# Altium integrated library TI Data Converters Digital to Analog Converter.IntLib: 1533 symbols (part 60 of 99)
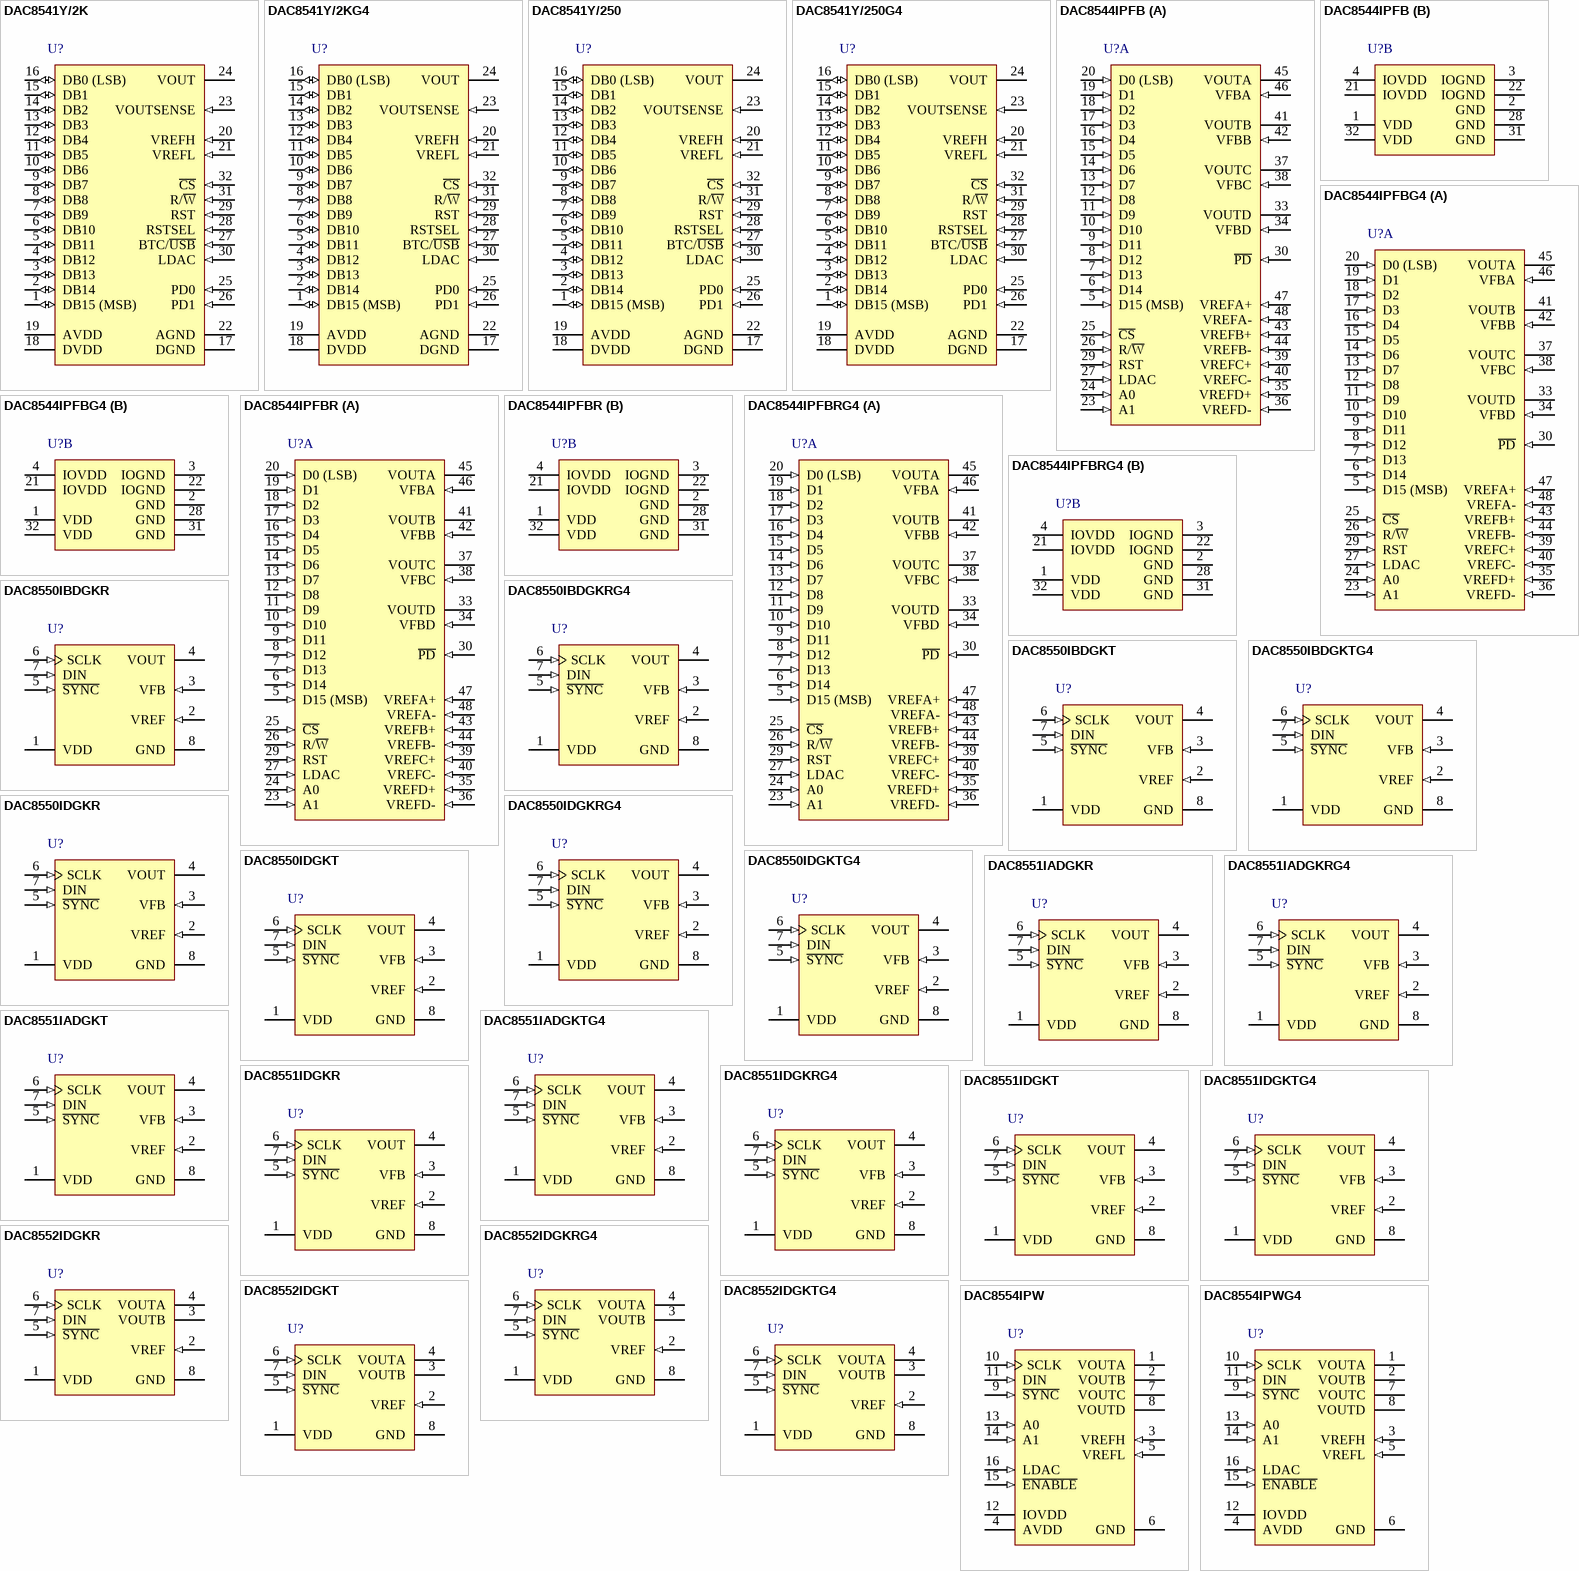
[diagram p132: symbols DAC8541Y/2K to DAC8554IPWG4]

## DAC8551IDGKTG4
designator U?
16-Bit, Ultralow Glitch, Voltage Output, Digital to Analog Converter, -40 to 105 degC, 8-pin SOP (DGK8), Green (RoHS & no Sb/Br); Manufacturer: Texas Instruments; PartNumber: DAC8551IDGKTG4; DAC Channels: 1; INL(Max)(+/-LSB): 8; Interface: Serial SPI; Resolution(Bits): 16; Settling Time(us): 10; SFDR(dB): 87; SNR(dB): 95; SubFamily: Precision DAC (=<10MSPS); DatasheetVersion: SLAS429B; PackageVersion: 4073329/E, 05/2006; PackageReference: DGK8; PackageDescription: 8-Pin Thin Small Outline, Body 3 x 3 mm, Pitch 0.65 mm; Supplier 1: Digi-Key; Supplier Part Number 1: DAC8551IDGKTG4-ND; Supplier 2: Newark; Supplier Part Number 2: 70K1034; Supplier 3: Mouser; Supplier Part Number 3: 595-DAC8551IDGKTG4; DNL(Max)(+/-LSB): 1; Eco-Plan: Green (RoHS & no Sb/Br); Power Consumption(Typ)(mW): 1; Mounting Technology: Surface Mount; Code_JEDEC: MO-187; ComponentLink1Description: Manufacturer URL; ComponentLink1URL: http://www.ti.com/; ComponentLink2Description: Datasheet; ComponentLink2URL: http://www.ti.com/general/docs/lit/getliterature.tsp?genericPartNumber=DAC8551&fileType=pdf; ComponentLink3Description: Package Specification; ComponentLink3URL: http://www.ti.com/litv/pdf/mpds028d
footprint TI-DGK8_N (SOP, 8-Leads, Body 3x3mm, Pitch 0.65mm, IPC Medium Density)
footprint TI-DGK8_L (SOP, 8-Leads, Body 3x3mm, Pitch 0.65mm, IPC High Density)
footprint TI-DGK8_M (SOP, 8-Leads, Body 3x3mm, Pitch 0.65mm, IPC Low Density)
pins: 1 VDD (power) "Power-Supply Input, +2.7V to +5.5V", 2 VREF (in) "Reference Voltage Input", 3 VFB (in) "Feedback connection for the output amplifier", 4 VOUT (hiz) "Analog output voltage from DAC. The output amplifier has rail-to-rail operation.", 5 ~{SYNC} (in) "Level-triggered control input (active LOW). This is the frame synchronization signal for the input data. When S\Y\N\C\ goes LOW, it enables the input shift register and data is transferred in on the falling edges of the (See Datasheet)", 6 SCLK (in) "Serial Clock Input. Data can be transferred at rates up to 30MHz.", 7 DIN (in) "Serial Data Input. Data is clocked into the 24-bit input shift register on the falling edge of the serial clock input.", 8 GND (power) "Ground reference point for all circuitry on the part."

## DAC8552IDGKR
designator U?
16-Bit, Dual-Channel, Ultralow Glitch, Voltage Output, Digital to Analog Converter, -40 to 105 degC, 8-pin SOP (DGK8), Green (RoHS & no Sb/Br); Manufacturer: Texas Instruments; PartNumber: DAC8552IDGKR; DAC Channels: 2; DNL(Max)(+/-LSB): 1; Interface: Serial SPI; Resolution(Bits): 16; Settling Time(us): 10; SFDR(dB): 87; SNR(dB): 95; SubFamily: Precision DAC (=<10MSPS); DatasheetVersion: SLAS430A; PackageVersion: 4073329/E, 05/2006; PackageReference: DGK8; PackageDescription: 8-Pin Thin Small Outline, Body 3 x 3 mm, Pitch 0.65 mm; Supplier 1: Digi-Key; Supplier Part Number 1: DAC8552IDGKR-ND; Supplier 2: Newark; Supplier Part Number 2: 06M7242; Supplier 3: Mouser; Supplier Part Number 3: 595-DAC8552IDGKR; Eco-Plan: Green (RoHS & no Sb/Br); Mounting Technology: Surface Mount; Code_JEDEC: MO-187; ComponentLink1Description: Manufacturer URL; ComponentLink1URL: http://www.ti.com/; ComponentLink2Description: Datasheet; ComponentLink2URL: http://www.ti.com/general/docs/lit/getliterature.tsp?genericPartNumber=DAC8552&fileType=pdf; ComponentLink3Description: Package Specification; ComponentLink3URL: http://www.ti.com/litv/pdf/mpds028d
footprint TI-DGK8_N (SOP, 8-Leads, Body 3x3mm, Pitch 0.65mm, IPC Medium Density)
footprint TI-DGK8_L (SOP, 8-Leads, Body 3x3mm, Pitch 0.65mm, IPC High Density)
footprint TI-DGK8_M (SOP, 8-Leads, Body 3x3mm, Pitch 0.65mm, IPC Low Density)
pins: 1 VDD (power) "Power supply input, +2.7V to +5.5V.", 2 VREF (in) "Reference voltage input.", 3 VOUTB (hiz) "Analog output voltage from DAC B.", 4 VOUTA (hiz) "Analog output voltage from DAC A.", 5 ~{SYNC} (in) "Level triggered S\Y\N\C\ input (active LOW). This is the frame synchronization signal for the input data. When S\Y\N\C\ goes LOW, it enables the input shift register and data is transferred on the falling edge of SCLK. The (See Datasheet)", 6 SCLK (in) "Serial Clock Input. Data can be transferred at rates up to 30 MHz at 5V.", 7 DIN (in) "Serial Data Input. Data is clocked into the 24-bit input shift register on each falling edge of the serial clock input.", 8 GND (power) "Ground reference point for all circuitry on the part."

## DAC8552IDGKRG4
designator U?
16-Bit, Dual-Channel, Ultralow Glitch, Voltage Output, Digital to Analog Converter, -40 to 105 degC, 8-pin SOP (DGK8), Green (RoHS & no Sb/Br); Manufacturer: Texas Instruments; PartNumber: DAC8552IDGKRG4; DAC Channels: 2; DNL(Max)(+/-LSB): 1; Interface: Serial SPI; Resolution(Bits): 16; Settling Time(us): 10; SFDR(dB): 87; SNR(dB): 95; SubFamily: Precision DAC (=<10MSPS); DatasheetVersion: SLAS430A; PackageVersion: 4073329/E, 05/2006; PackageReference: DGK8; PackageDescription: 8-Pin Thin Small Outline, Body 3 x 3 mm, Pitch 0.65 mm; Supplier 1: Digi-Key; Supplier Part Number 1: DAC8552IDGKRG4-ND; Supplier 2: Newark; Supplier Part Number 2: 06M7243; Supplier 3: Mouser; Supplier Part Number 3: 595-DAC8552IDGKRG4; Eco-Plan: Green (RoHS & no Sb/Br); Mounting Technology: Surface Mount; Code_JEDEC: MO-187; ComponentLink1Description: Manufacturer URL; ComponentLink1URL: http://www.ti.com/; ComponentLink2Description: Datasheet; ComponentLink2URL: http://www.ti.com/general/docs/lit/getliterature.tsp?genericPartNumber=DAC8552&fileType=pdf; ComponentLink3Description: Package Specification; ComponentLink3URL: http://www.ti.com/litv/pdf/mpds028d
footprint TI-DGK8_N (SOP, 8-Leads, Body 3x3mm, Pitch 0.65mm, IPC Medium Density)
footprint TI-DGK8_L (SOP, 8-Leads, Body 3x3mm, Pitch 0.65mm, IPC High Density)
footprint TI-DGK8_M (SOP, 8-Leads, Body 3x3mm, Pitch 0.65mm, IPC Low Density)
pins: 1 VDD (power) "Power supply input, +2.7V to +5.5V.", 2 VREF (in) "Reference voltage input.", 3 VOUTB (hiz) "Analog output voltage from DAC B.", 4 VOUTA (hiz) "Analog output voltage from DAC A.", 5 ~{SYNC} (in) "Level triggered S\Y\N\C\ input (active LOW). This is the frame synchronization signal for the input data. When S\Y\N\C\ goes LOW, it enables the input shift register and data is transferred on the falling edge of SCLK. The (See Datasheet)", 6 SCLK (in) "Serial Clock Input. Data can be transferred at rates up to 30 MHz at 5V.", 7 DIN (in) "Serial Data Input. Data is clocked into the 24-bit input shift register on each falling edge of the serial clock input.", 8 GND (power) "Ground reference point for all circuitry on the part."

## DAC8552IDGKT
designator U?
16-Bit, Dual-Channel, Ultralow Glitch, Voltage Output, Digital to Analog Converter, -40 to 105 degC, 8-pin SOP (DGK8), Green (RoHS & no Sb/Br); Manufacturer: Texas Instruments; PartNumber: DAC8552IDGKT; DAC Channels: 2; DNL(Max)(+/-LSB): 1; Interface: Serial SPI; Resolution(Bits): 16; Settling Time(us): 10; SFDR(dB): 87; SNR(dB): 95; SubFamily: Precision DAC (=<10MSPS); DatasheetVersion: SLAS430A; PackageVersion: 4073329/E, 05/2006; PackageReference: DGK8; PackageDescription: 8-Pin Thin Small Outline, Body 3 x 3 mm, Pitch 0.65 mm; Supplier 1: Digi-Key; Supplier Part Number 1: 296-20676-2-ND; Supplier 2: Digi-Key; Supplier Part Number 2: 296-20676-1-ND; Supplier 3: Digi-Key; Supplier Part Number 3: 296-20676-6-ND; Supplier 4: Farnell; Supplier Part Number 4: 1309600; Supplier 5: Newark; Supplier Part Number 5: 06M7244; Supplier 6: Mouser; Supplier Part Number 6: 595-DAC8552IDGKT; Eco-Plan: Green (RoHS & no Sb/Br); Mounting Technology: Surface Mount; Code_JEDEC: MO-187; ComponentLink1Description: Manufacturer URL; ComponentLink1URL: http://www.ti.com/; ComponentLink2Description: Datasheet; ComponentLink2URL: http://www.ti.com/general/docs/lit/getliterature.tsp?genericPartNumber=DAC8552&fileType=pdf; ComponentLink3Description: Package Specification; ComponentLink3URL: http://www.ti.com/litv/pdf/mpds028d
footprint TI-DGK8_N (SOP, 8-Leads, Body 3x3mm, Pitch 0.65mm, IPC Medium Density)
footprint TI-DGK8_L (SOP, 8-Leads, Body 3x3mm, Pitch 0.65mm, IPC High Density)
footprint TI-DGK8_M (SOP, 8-Leads, Body 3x3mm, Pitch 0.65mm, IPC Low Density)
pins: 1 VDD (power) "Power supply input, +2.7V to +5.5V.", 2 VREF (in) "Reference voltage input.", 3 VOUTB (hiz) "Analog output voltage from DAC B.", 4 VOUTA (hiz) "Analog output voltage from DAC A.", 5 ~{SYNC} (in) "Level triggered S\Y\N\C\ input (active LOW). This is the frame synchronization signal for the input data. When S\Y\N\C\ goes LOW, it enables the input shift register and data is transferred on the falling edge of SCLK. The (See Datasheet)", 6 SCLK (in) "Serial Clock Input. Data can be transferred at rates up to 30 MHz at 5V.", 7 DIN (in) "Serial Data Input. Data is clocked into the 24-bit input shift register on each falling edge of the serial clock input.", 8 GND (power) "Ground reference point for all circuitry on the part."

## DAC8552IDGKTG4
designator U?
16-Bit, Dual-Channel, Ultralow Glitch, Voltage Output, Digital to Analog Converter, -40 to 105 degC, 8-pin SOP (DGK8), Green (RoHS & no Sb/Br); Manufacturer: Texas Instruments; PartNumber: DAC8552IDGKTG4; DAC Channels: 2; DNL(Max)(+/-LSB): 1; Interface: Serial SPI; Resolution(Bits): 16; Settling Time(us): 10; SFDR(dB): 87; SNR(dB): 95; SubFamily: Precision DAC (=<10MSPS); DatasheetVersion: SLAS430A; PackageVersion: 4073329/E, 05/2006; PackageReference: DGK8; PackageDescription: 8-Pin Thin Small Outline, Body 3 x 3 mm, Pitch 0.65 mm; Supplier 1: Digi-Key; Supplier Part Number 1: DAC8552IDGKTG4-ND; Supplier 2: Farnell; Supplier Part Number 2: 1329584; Supplier 3: Newark; Supplier Part Number 3: 61M5759; Supplier 4: Newark; Supplier Part Number 4: 06M7245; Supplier 5: Mouser; Supplier Part Number 5: 595-DAC8552IDGKTG4; Eco-Plan: Green (RoHS & no Sb/Br); Mounting Technology: Surface Mount; Code_JEDEC: MO-187; ComponentLink1Description: Manufacturer URL; ComponentLink1URL: http://www.ti.com/; ComponentLink2Description: Datasheet; ComponentLink2URL: http://www.ti.com/general/docs/lit/getliterature.tsp?genericPartNumber=DAC8552&fileType=pdf; ComponentLink3Description: Package Specification; ComponentLink3URL: http://www.ti.com/litv/pdf/mpds028d
footprint TI-DGK8_N (SOP, 8-Leads, Body 3x3mm, Pitch 0.65mm, IPC Medium Density)
footprint TI-DGK8_L (SOP, 8-Leads, Body 3x3mm, Pitch 0.65mm, IPC High Density)
footprint TI-DGK8_M (SOP, 8-Leads, Body 3x3mm, Pitch 0.65mm, IPC Low Density)
pins: 1 VDD (power) "Power supply input, +2.7V to +5.5V.", 2 VREF (in) "Reference voltage input.", 3 VOUTB (hiz) "Analog output voltage from DAC B.", 4 VOUTA (hiz) "Analog output voltage from DAC A.", 5 ~{SYNC} (in) "Level triggered S\Y\N\C\ input (active LOW). This is the frame synchronization signal for the input data. When S\Y\N\C\ goes LOW, it enables the input shift register and data is transferred on the falling edge of SCLK. The (See Datasheet)", 6 SCLK (in) "Serial Clock Input. Data can be transferred at rates up to 30 MHz at 5V.", 7 DIN (in) "Serial Data Input. Data is clocked into the 24-bit input shift register on each falling edge of the serial clock input.", 8 GND (power) "Ground reference point for all circuitry on the part."

## DAC8554IPW
designator U?
16-Bit, Quad Channel, Ultralow Glitch, Voltage Output Digital to Analog Converter, -40 to 105 degC, 16-pin SOP (PW16), Green (RoHS & no Sb/Br); Manufacturer: Texas Instruments; PartNumber: DAC8554IPW; DAC Channels: 4; DNL(Max)(+/-LSB): 1; Interface: Serial SPI; Resolution(Bits): 16; Settling Time(us): 10; SFDR(dB): 87; SNR(dB): 95; SubFamily: Precision DAC (=<10MSPS); DatasheetVersion: SLAS431B; PackageVersion: 4040064-4/G, 02/2011; PackageReference: PW16; PackageDescription: 16-Pin Plastic Small Outline, Body 5 x 4.4 mm, Pitch 0.65 mm; Supplier 1: Digi-Key; Supplier Part Number 1: 296-18310-5-ND; Supplier 2: Farnell; Supplier Part Number 2: 1295911; Supplier 3: Newark; Supplier Part Number 3: 53K9298; Supplier 4: Mouser; Supplier Part Number 4: 595-DAC8554IPW; Eco-Plan: Green (RoHS & no Sb/Br); Mounting Technology: Surface Mount; Code_JEDEC: MO-153; ComponentLink1Description: Manufacturer URL; ComponentLink1URL: http://www.ti.com/; ComponentLink2Description: Datasheet; ComponentLink2URL: http://www.ti.com/general/docs/lit/getliterature.tsp?genericPartNumber=DAC8554&fileType=pdf; ComponentLink3Description: Package Specification; ComponentLink3URL: http://www.ti.com/lit/ml/mpds361/mpds361.pdf
footprint TI-PW16_N (SOP, 16-Leads, Body 5x4.4mm, Pitch 0.65mm, IPC Medium Density)
footprint TI-PW16_L (SOP, 16-Leads, Body 5x4.4mm, Pitch 0.65mm, IPC High Density)
footprint TI-PW16_M (SOP, 16-Leads, Body 5x4.4mm, Pitch 0.65mm, IPC Low Density)
pins: 1 VOUTA (hiz) "Analog output voltage from DAC A", 2 VOUTB (hiz) "Analog output voltage from DAC B", 3 VREFH (in) "Positive reference input", 4 AVDD (power) "Power-supply input, 2.7V to 5.5V", 5 VREFL (in) "Negative reference input", 6 GND (power) "Ground reference point for all circuitry on the part", 7 VOUTC (hiz) "Analog output voltage from DAC C", 8 VOUTD (hiz) "Analog output voltage from DAC D", 9 ~{SYNC} (in) "Level-triggered control input (active low). This input is the frame synchronization signal for the input data. When S\Y\N\C\ goes low, it enables the input shift register, and data are sampled on subsequent falling clock (See Datasheet)", 10 SCLK (in) "Serial clock input. Data can be transferred at rates up to 50MHz. Schmitt-Trigger logic input.", 11 DIN (in) "Serial data input. Data are clocked into the 24-bit input shift register on each falling edge of the serial clock input. Schmitt-Trigger logic input.", 12 IOVDD (power) "Digital input-output power supply", 13 A0 (in) "Address 0-sets device address; see Table 5.", 14 A1 (in) "Address 1-sets device address; see Table 5.", 15 ~{ENABLE} (in) "The E\N\A\B\L\E\ pin (active low) connects the SPI interface to the serial port", 16 LDAC (in) "Load DACs; rising edge triggered, loads all DAC registers"

## DAC8554IPWG4
designator U?
16-Bit, Quad Channel, Ultralow Glitch, Voltage Output Digital to Analog Converter, -40 to 105 degC, 16-pin SOP (PW16), Green (RoHS & no Sb/Br); Manufacturer: Texas Instruments; PartNumber: DAC8554IPWG4; DAC Channels: 4; DNL(Max)(+/-LSB): 1; Interface: Serial SPI; Resolution(Bits): 16; Settling Time(us): 10; SFDR(dB): 87; SNR(dB): 95; SubFamily: Precision DAC (=<10MSPS); DatasheetVersion: SLAS431B; PackageVersion: 4040064-4/G, 02/2011; PackageReference: PW16; PackageDescription: 16-Pin Plastic Small Outline, Body 5 x 4.4 mm, Pitch 0.65 mm; Supplier 1: Digi-Key; Supplier Part Number 1: DAC8554IPWG4-ND; Supplier 2: Farnell; Supplier Part Number 2: 1180106; Supplier 3: Newark; Supplier Part Number 3: 25M8872; Supplier 4: Mouser; Supplier Part Number 4: 595-DAC8554IPWG4; Eco-Plan: Green (RoHS & no Sb/Br); Mounting Technology: Surface Mount; Code_JEDEC: MO-153; ComponentLink1Description: Manufacturer URL; ComponentLink1URL: http://www.ti.com/; ComponentLink2Description: Datasheet; ComponentLink2URL: http://www.ti.com/general/docs/lit/getliterature.tsp?genericPartNumber=DAC8554&fileType=pdf; ComponentLink3Description: Package Specification; ComponentLink3URL: http://www.ti.com/lit/ml/mpds361/mpds361.pdf
footprint TI-PW16_N (SOP, 16-Leads, Body 5x4.4mm, Pitch 0.65mm, IPC Medium Density)
footprint TI-PW16_L (SOP, 16-Leads, Body 5x4.4mm, Pitch 0.65mm, IPC High Density)
footprint TI-PW16_M (SOP, 16-Leads, Body 5x4.4mm, Pitch 0.65mm, IPC Low Density)
pins: 1 VOUTA (hiz) "Analog output voltage from DAC A", 2 VOUTB (hiz) "Analog output voltage from DAC B", 3 VREFH (in) "Positive reference input", 4 AVDD (power) "Power-supply input, 2.7V to 5.5V", 5 VREFL (in) "Negative reference input", 6 GND (power) "Ground reference point for all circuitry on the part", 7 VOUTC (hiz) "Analog output voltage from DAC C", 8 VOUTD (hiz) "Analog output voltage from DAC D", 9 ~{SYNC} (in) "Level-triggered control input (active low). This input is the frame synchronization signal for the input data. When S\Y\N\C\ goes low, it enables the input shift register, and data are sampled on subsequent falling clock (See Datasheet)", 10 SCLK (in) "Serial clock input. Data can be transferred at rates up to 50MHz. Schmitt-Trigger logic input.", 11 DIN (in) "Serial data input. Data are clocked into the 24-bit input shift register on each falling edge of the serial clock input. Schmitt-Trigger logic input.", 12 IOVDD (power) "Digital input-output power supply", 13 A0 (in) "Address 0-sets device address; see Table 5.", 14 A1 (in) "Address 1-sets device address; see Table 5.", 15 ~{ENABLE} (in) "The E\N\A\B\L\E\ pin (active low) connects the SPI interface to the serial port", 16 LDAC (in) "Load DACs; rising edge triggered, loads all DAC registers"

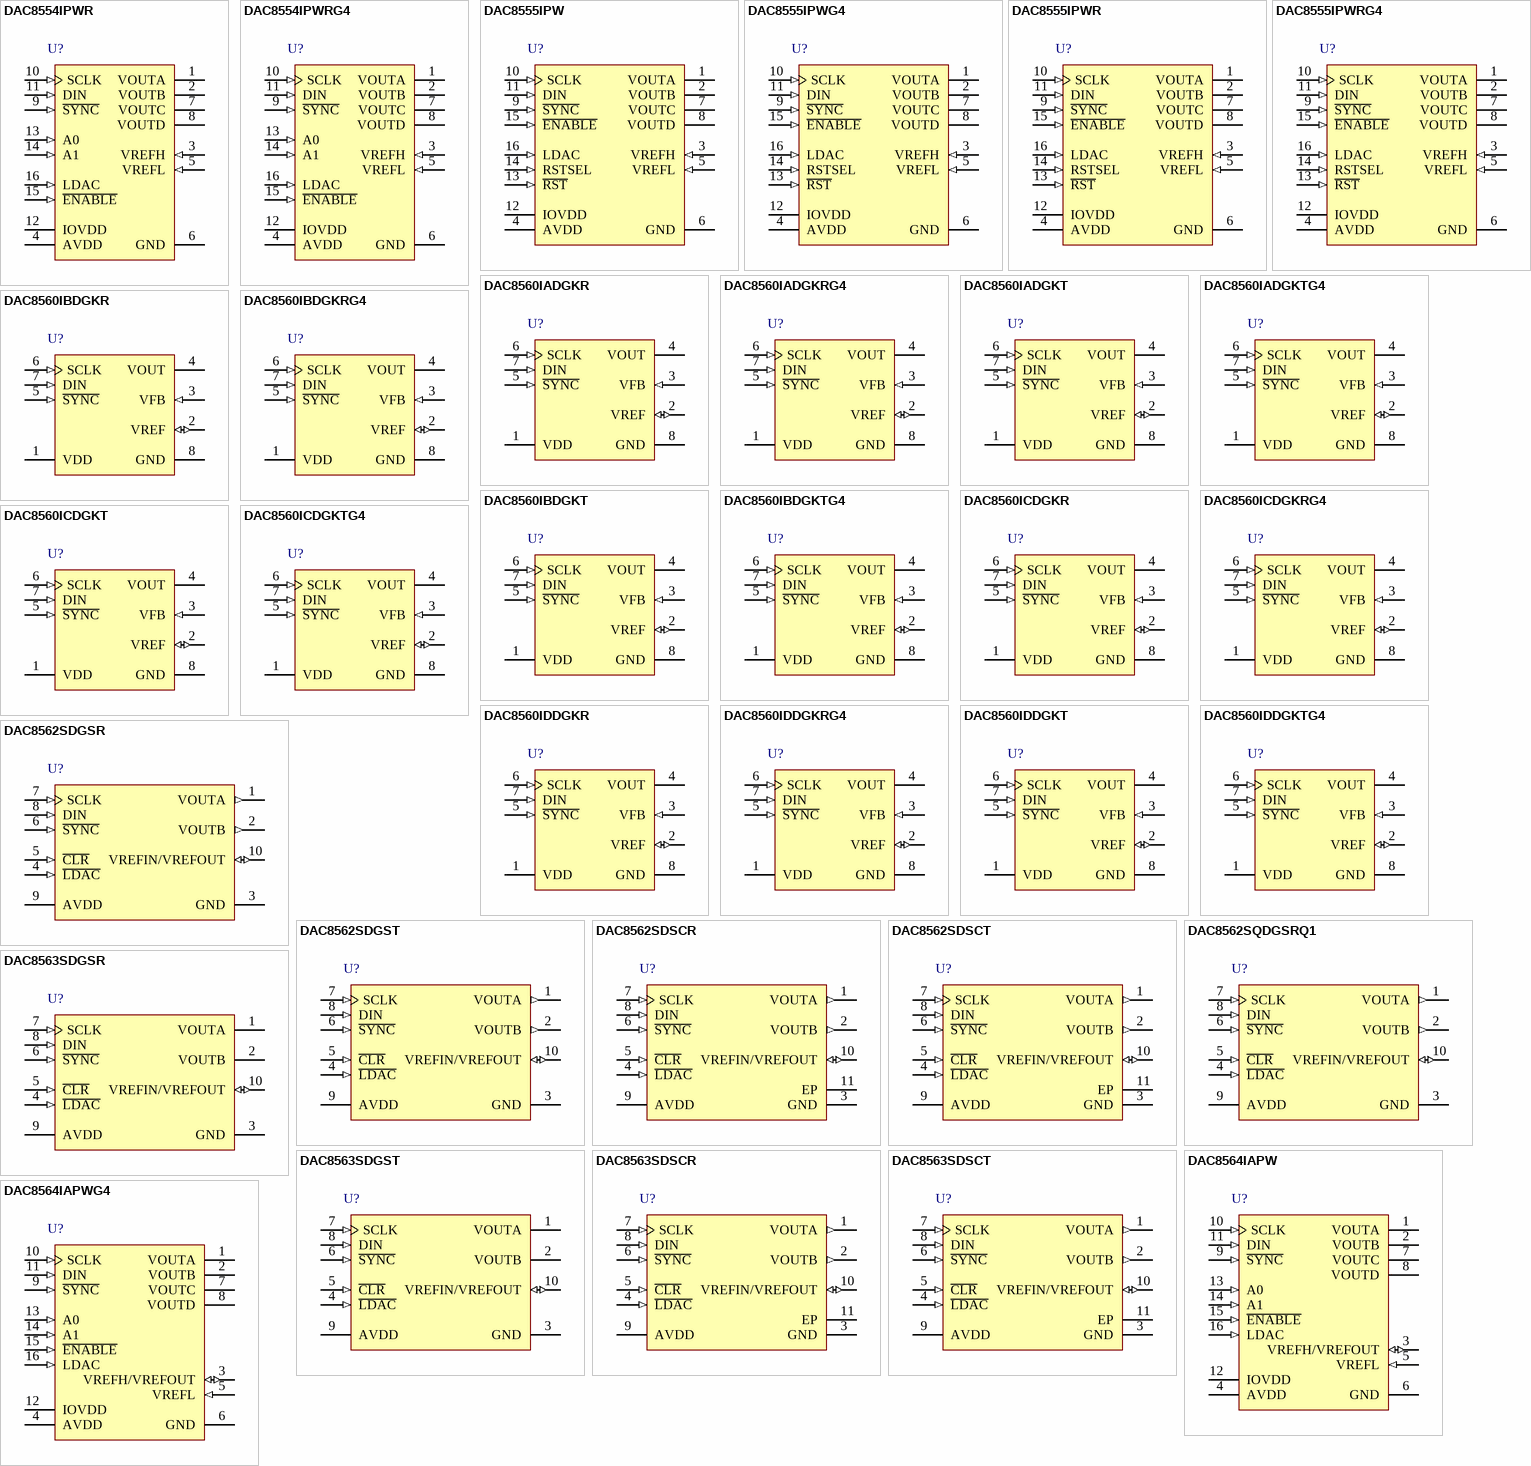
[diagram p47: symbols DAC8554IPWR to DAC8564IAPWG4]

## DAC8554IPWR
designator U?
16-Bit, Quad Channel, Ultralow Glitch, Voltage Output Digital to Analog Converter, -40 to 105 degC, 16-pin SOP (PW16), Green (RoHS & no Sb/Br); Manufacturer: Texas Instruments; PartNumber: DAC8554IPWR; DAC Channels: 4; DNL(Max)(+/-LSB): 1; Interface: Serial SPI; Resolution(Bits): 16; Settling Time(us): 10; SFDR(dB): 87; SNR(dB): 95; SubFamily: Precision DAC (=<10MSPS); DatasheetVersion: SLAS431B; PackageVersion: 4040064-4/G, 02/2011; PackageReference: PW16; PackageDescription: 16-Pin Plastic Small Outline, Body 5 x 4.4 mm, Pitch 0.65 mm; Supplier 1: Digi-Key; Supplier Part Number 1: DAC8554IPWR-ND; Supplier 2: Newark; Supplier Part Number 2: 53K9299; Supplier 3: Mouser; Supplier Part Number 3: 595-DAC8554IPWR; Eco-Plan: Green (RoHS & no Sb/Br); Mounting Technology: Surface Mount; Code_JEDEC: MO-153; ComponentLink1Description: Manufacturer URL; ComponentLink1URL: http://www.ti.com/; ComponentLink2Description: Datasheet; ComponentLink2URL: http://www.ti.com/general/docs/lit/getliterature.tsp?genericPartNumber=DAC8554&fileType=pdf; ComponentLink3Description: Package Specification; ComponentLink3URL: http://www.ti.com/lit/ml/mpds361/mpds361.pdf
footprint TI-PW16_N (SOP, 16-Leads, Body 5x4.4mm, Pitch 0.65mm, IPC Medium Density)
footprint TI-PW16_L (SOP, 16-Leads, Body 5x4.4mm, Pitch 0.65mm, IPC High Density)
footprint TI-PW16_M (SOP, 16-Leads, Body 5x4.4mm, Pitch 0.65mm, IPC Low Density)
pins: 1 VOUTA (hiz) "Analog output voltage from DAC A", 2 VOUTB (hiz) "Analog output voltage from DAC B", 3 VREFH (in) "Positive reference input", 4 AVDD (power) "Power-supply input, 2.7V to 5.5V", 5 VREFL (in) "Negative reference input", 6 GND (power) "Ground reference point for all circuitry on the part", 7 VOUTC (hiz) "Analog output voltage from DAC C", 8 VOUTD (hiz) "Analog output voltage from DAC D", 9 ~{SYNC} (in) "Level-triggered control input (active low). This input is the frame synchronization signal for the input data. When S\Y\N\C\ goes low, it enables the input shift register, and data are sampled on subsequent falling clock (See Datasheet)", 10 SCLK (in) "Serial clock input. Data can be transferred at rates up to 50MHz. Schmitt-Trigger logic input.", 11 DIN (in) "Serial data input. Data are clocked into the 24-bit input shift register on each falling edge of the serial clock input. Schmitt-Trigger logic input.", 12 IOVDD (power) "Digital input-output power supply", 13 A0 (in) "Address 0-sets device address; see Table 5.", 14 A1 (in) "Address 1-sets device address; see Table 5.", 15 ~{ENABLE} (in) "The E\N\A\B\L\E\ pin (active low) connects the SPI interface to the serial port", 16 LDAC (in) "Load DACs; rising edge triggered, loads all DAC registers"

## DAC8554IPWRG4
designator U?
16-Bit, Quad Channel, Ultralow Glitch, Voltage Output Digital to Analog Converter, -40 to 105 degC, 16-pin SOP (PW16), Green (RoHS & no Sb/Br); Manufacturer: Texas Instruments; PartNumber: DAC8554IPWRG4; DAC Channels: 4; DNL(Max)(+/-LSB): 1; Interface: Serial SPI; Resolution(Bits): 16; Settling Time(us): 10; SFDR(dB): 87; SNR(dB): 95; SubFamily: Precision DAC (=<10MSPS); DatasheetVersion: SLAS431B; PackageVersion: 4040064-4/G, 02/2011; PackageReference: PW16; PackageDescription: 16-Pin Plastic Small Outline, Body 5 x 4.4 mm, Pitch 0.65 mm; Supplier 1: Digi-Key; Supplier Part Number 1: DAC8554IPWRG4-ND; Supplier 2: Newark; Supplier Part Number 2: 58K5656; Supplier 3: Mouser; Supplier Part Number 3: 595-DAC8554IPWRG4; Eco-Plan: Green (RoHS & no Sb/Br); Mounting Technology: Surface Mount; Code_JEDEC: MO-153; ComponentLink1Description: Manufacturer URL; ComponentLink1URL: http://www.ti.com/; ComponentLink2Description: Datasheet; ComponentLink2URL: http://www.ti.com/general/docs/lit/getliterature.tsp?genericPartNumber=DAC8554&fileType=pdf; ComponentLink3Description: Package Specification; ComponentLink3URL: http://www.ti.com/lit/ml/mpds361/mpds361.pdf
footprint TI-PW16_N (SOP, 16-Leads, Body 5x4.4mm, Pitch 0.65mm, IPC Medium Density)
footprint TI-PW16_L (SOP, 16-Leads, Body 5x4.4mm, Pitch 0.65mm, IPC High Density)
footprint TI-PW16_M (SOP, 16-Leads, Body 5x4.4mm, Pitch 0.65mm, IPC Low Density)
pins: 1 VOUTA (hiz) "Analog output voltage from DAC A", 2 VOUTB (hiz) "Analog output voltage from DAC B", 3 VREFH (in) "Positive reference input", 4 AVDD (power) "Power-supply input, 2.7V to 5.5V", 5 VREFL (in) "Negative reference input", 6 GND (power) "Ground reference point for all circuitry on the part", 7 VOUTC (hiz) "Analog output voltage from DAC C", 8 VOUTD (hiz) "Analog output voltage from DAC D", 9 ~{SYNC} (in) "Level-triggered control input (active low). This input is the frame synchronization signal for the input data. When S\Y\N\C\ goes low, it enables the input shift register, and data are sampled on subsequent falling clock (See Datasheet)", 10 SCLK (in) "Serial clock input. Data can be transferred at rates up to 50MHz. Schmitt-Trigger logic input.", 11 DIN (in) "Serial data input. Data are clocked into the 24-bit input shift register on each falling edge of the serial clock input. Schmitt-Trigger logic input.", 12 IOVDD (power) "Digital input-output power supply", 13 A0 (in) "Address 0-sets device address; see Table 5.", 14 A1 (in) "Address 1-sets device address; see Table 5.", 15 ~{ENABLE} (in) "The E\N\A\B\L\E\ pin (active low) connects the SPI interface to the serial port", 16 LDAC (in) "Load DACs; rising edge triggered, loads all DAC registers"

## DAC8555IPW
designator U?
16-Bit, Quad Channel, Ultralow Glitch, Voltage Output Digital to Analog Converter, -40 to 105 degC, 16-pin SOP (PW16), Green (RoHS & no Sb/Br); Manufacturer: Texas Instruments; PartNumber: DAC8555IPW; DAC Channels: 4; DNL(Max)(+/-LSB): 1; Interface: Serial SPI; Resolution(Bits): 16; Settling Time(us): 10; SFDR(dB): 87; SNR(dB): 95; SubFamily: Precision DAC (=<10MSPS); DatasheetVersion: SLAS475B; PackageVersion: 4040064-4/G, 02/2011; PackageReference: PW16; PackageDescription: 16-Pin Plastic Small Outline, Body 5 x 4.4 mm, Pitch 0.65 mm; Supplier 1: Digi-Key; Supplier Part Number 1: 296-19402-5-ND; Supplier 2: Newark; Supplier Part Number 2: 71K2658; Supplier 3: Mouser; Supplier Part Number 3: 595-DAC8555IPW; Eco-Plan: Green (RoHS & no Sb/Br); Mounting Technology: Surface Mount; Code_JEDEC: MO-153; ComponentLink1Description: Manufacturer URL; ComponentLink1URL: http://www.ti.com/; ComponentLink2Description: Datasheet; ComponentLink2URL: http://www.ti.com/general/docs/lit/getliterature.tsp?genericPartNumber=DAC8555&fileType=pdf; ComponentLink3Description: Package Specification; ComponentLink3URL: http://www.ti.com/lit/ml/mpds361/mpds361.pdf
footprint TI-PW16_N (SOP, 16-Leads, Body 5x4.4mm, Pitch 0.65mm, IPC Medium Density)
footprint TI-PW16_L (SOP, 16-Leads, Body 5x4.4mm, Pitch 0.65mm, IPC High Density)
footprint TI-PW16_M (SOP, 16-Leads, Body 5x4.4mm, Pitch 0.65mm, IPC Low Density)
pins: 1 VOUTA (hiz) "Analog output voltage from DAC A", 2 VOUTB (hiz) "Analog output voltage from DAC B", 3 VREFH (in) "Positive reference input", 4 AVDD (power) "Power-supply input, 2.7V to 5.5V", 5 VREFL (in) "Negative reference input", 6 GND (power) "Ground reference point for all circuitry on the part", 7 VOUTC (hiz) "Analog output voltage from DAC C", 8 VOUTD (hiz) "Analog output voltage from DAC D", 9 ~{SYNC} (in) "Level-triggered control input (active low). This input is the frame synchronization signal for the input data. When S\Y\N\C\ goes low, it enables the input shift register, and data are sampled on subsequent falling clock (See Datasheet)", 10 SCLK (in) "Serial clock input. Data can be transferred at rates up to 50MHz. Schmitt-Trigger logic input.", 11 DIN (in) "Serial data input. Data are clocked into the 24-bit input shift register on each falling edge of the serial clock input. Schmitt-Trigger logic input.", 12 IOVDD (power) "Digital input-output power supply", 13 ~{RST} (in) "Asynchronous reset. Active low. If R\S\T\ is low, all DAC channels reset either to zero-scale (RSTSEL = 0) or to midscale (RSTSEL = 1).", 14 RSTSEL (in) "Reset select. If RSTSEL is low, input coding is binary; if high = 2's complement", 15 ~{ENABLE} (in) "The E\N\A\B\L\E\ pin (active low) connects the SPI interface to the serial port", 16 LDAC (in) "Load DACs; rising edge triggered, loads all DAC registers"

## DAC8555IPWG4
designator U?
16-Bit, Quad Channel, Ultralow Glitch, Voltage Output Digital to Analog Converter, -40 to 105 degC, 16-pin SOP (PW16), Green (RoHS & no Sb/Br); Manufacturer: Texas Instruments; PartNumber: DAC8555IPWG4; DAC Channels: 4; DNL(Max)(+/-LSB): 1; Interface: Serial SPI; Resolution(Bits): 16; Settling Time(us): 10; SFDR(dB): 87; SNR(dB): 95; SubFamily: Precision DAC (=<10MSPS); DatasheetVersion: SLAS475B; PackageVersion: 4040064-4/G, 02/2011; PackageReference: PW16; PackageDescription: 16-Pin Plastic Small Outline, Body 5 x 4.4 mm, Pitch 0.65 mm; Supplier 1: Digi-Key; Supplier Part Number 1: DAC8555IPWG4-ND; Supplier 2: Newark; Supplier Part Number 2: 73K7718; Supplier 3: Mouser; Supplier Part Number 3: 595-DAC8555IPWG4; Eco-Plan: Green (RoHS & no Sb/Br); Mounting Technology: Surface Mount; Code_JEDEC: MO-153; ComponentLink1Description: Manufacturer URL; ComponentLink1URL: http://www.ti.com/; ComponentLink2Description: Datasheet; ComponentLink2URL: http://www.ti.com/general/docs/lit/getliterature.tsp?genericPartNumber=DAC8555&fileType=pdf; ComponentLink3Description: Package Specification; ComponentLink3URL: http://www.ti.com/lit/ml/mpds361/mpds361.pdf
footprint TI-PW16_N (SOP, 16-Leads, Body 5x4.4mm, Pitch 0.65mm, IPC Medium Density)
footprint TI-PW16_L (SOP, 16-Leads, Body 5x4.4mm, Pitch 0.65mm, IPC High Density)
footprint TI-PW16_M (SOP, 16-Leads, Body 5x4.4mm, Pitch 0.65mm, IPC Low Density)
pins: 1 VOUTA (hiz) "Analog output voltage from DAC A", 2 VOUTB (hiz) "Analog output voltage from DAC B", 3 VREFH (in) "Positive reference input", 4 AVDD (power) "Power-supply input, 2.7V to 5.5V", 5 VREFL (in) "Negative reference input", 6 GND (power) "Ground reference point for all circuitry on the part", 7 VOUTC (hiz) "Analog output voltage from DAC C", 8 VOUTD (hiz) "Analog output voltage from DAC D", 9 ~{SYNC} (in) "Level-triggered control input (active low). This input is the frame synchronization signal for the input data. When S\Y\N\C\ goes low, it enables the input shift register, and data are sampled on subsequent falling clock (See Datasheet)", 10 SCLK (in) "Serial clock input. Data can be transferred at rates up to 50MHz. Schmitt-Trigger logic input.", 11 DIN (in) "Serial data input. Data are clocked into the 24-bit input shift register on each falling edge of the serial clock input. Schmitt-Trigger logic input.", 12 IOVDD (power) "Digital input-output power supply", 13 ~{RST} (in) "Asynchronous reset. Active low. If R\S\T\ is low, all DAC channels reset either to zero-scale (RSTSEL = 0) or to midscale (RSTSEL = 1).", 14 RSTSEL (in) "Reset select. If RSTSEL is low, input coding is binary; if high = 2's complement", 15 ~{ENABLE} (in) "The E\N\A\B\L\E\ pin (active low) connects the SPI interface to the serial port", 16 LDAC (in) "Load DACs; rising edge triggered, loads all DAC registers"

## DAC8555IPWR
designator U?
16-Bit, Quad Channel, Ultralow Glitch, Voltage Output Digital to Analog Converter, -40 to 105 degC, 16-pin SOP (PW16), Green (RoHS & no Sb/Br); Manufacturer: Texas Instruments; PartNumber: DAC8555IPWR; DAC Channels: 4; DNL(Max)(+/-LSB): 1; Interface: Serial SPI; Resolution(Bits): 16; Settling Time(us): 10; SFDR(dB): 87; SNR(dB): 95; SubFamily: Precision DAC (=<10MSPS); DatasheetVersion: SLAS475B; PackageVersion: 4040064-4/G, 02/2011; PackageReference: PW16; PackageDescription: 16-Pin Plastic Small Outline, Body 5 x 4.4 mm, Pitch 0.65 mm; Supplier 1: Digi-Key; Supplier Part Number 1: DAC8555IPWR-ND; Supplier 2: Newark; Supplier Part Number 2: 71K2659; Supplier 3: Mouser; Supplier Part Number 3: 595-DAC8555IPWR; Eco-Plan: Green (RoHS & no Sb/Br); Mounting Technology: Surface Mount; Code_JEDEC: MO-153; ComponentLink1Description: Manufacturer URL; ComponentLink1URL: http://www.ti.com/; ComponentLink2Description: Datasheet; ComponentLink2URL: http://www.ti.com/general/docs/lit/getliterature.tsp?genericPartNumber=DAC8555&fileType=pdf; ComponentLink3Description: Package Specification; ComponentLink3URL: http://www.ti.com/lit/ml/mpds361/mpds361.pdf
footprint TI-PW16_N (SOP, 16-Leads, Body 5x4.4mm, Pitch 0.65mm, IPC Medium Density)
footprint TI-PW16_L (SOP, 16-Leads, Body 5x4.4mm, Pitch 0.65mm, IPC High Density)
footprint TI-PW16_M (SOP, 16-Leads, Body 5x4.4mm, Pitch 0.65mm, IPC Low Density)
pins: 1 VOUTA (hiz) "Analog output voltage from DAC A", 2 VOUTB (hiz) "Analog output voltage from DAC B", 3 VREFH (in) "Positive reference input", 4 AVDD (power) "Power-supply input, 2.7V to 5.5V", 5 VREFL (in) "Negative reference input", 6 GND (power) "Ground reference point for all circuitry on the part", 7 VOUTC (hiz) "Analog output voltage from DAC C", 8 VOUTD (hiz) "Analog output voltage from DAC D", 9 ~{SYNC} (in) "Level-triggered control input (active low). This input is the frame synchronization signal for the input data. When S\Y\N\C\ goes low, it enables the input shift register, and data are sampled on subsequent falling clock (See Datasheet)", 10 SCLK (in) "Serial clock input. Data can be transferred at rates up to 50MHz. Schmitt-Trigger logic input.", 11 DIN (in) "Serial data input. Data are clocked into the 24-bit input shift register on each falling edge of the serial clock input. Schmitt-Trigger logic input.", 12 IOVDD (power) "Digital input-output power supply", 13 ~{RST} (in) "Asynchronous reset. Active low. If R\S\T\ is low, all DAC channels reset either to zero-scale (RSTSEL = 0) or to midscale (RSTSEL = 1).", 14 RSTSEL (in) "Reset select. If RSTSEL is low, input coding is binary; if high = 2's complement", 15 ~{ENABLE} (in) "The E\N\A\B\L\E\ pin (active low) connects the SPI interface to the serial port", 16 LDAC (in) "Load DACs; rising edge triggered, loads all DAC registers"

## DAC8555IPWRG4
designator U?
16-Bit, Quad Channel, Ultralow Glitch, Voltage Output Digital to Analog Converter, -40 to 105 degC, 16-pin SOP (PW16), Green (RoHS & no Sb/Br); Manufacturer: Texas Instruments; PartNumber: DAC8555IPWRG4; DAC Channels: 4; DNL(Max)(+/-LSB): 1; Interface: Serial SPI; Resolution(Bits): 16; Settling Time(us): 10; SFDR(dB): 87; SNR(dB): 95; SubFamily: Precision DAC (=<10MSPS); DatasheetVersion: SLAS475B; PackageVersion: 4040064-4/G, 02/2011; PackageReference: PW16; PackageDescription: 16-Pin Plastic Small Outline, Body 5 x 4.4 mm, Pitch 0.65 mm; Supplier 1: Digi-Key; Supplier Part Number 1: DAC8555IPWRG4-ND; Supplier 2: Mouser; Supplier Part Number 2: 595-DAC8555IPWRG4; Eco-Plan: Green (RoHS & no Sb/Br); Mounting Technology: Surface Mount; Code_JEDEC: MO-153; ComponentLink1Description: Manufacturer URL; ComponentLink1URL: http://www.ti.com/; ComponentLink2Description: Datasheet; ComponentLink2URL: http://www.ti.com/general/docs/lit/getliterature.tsp?genericPartNumber=DAC8555&fileType=pdf; ComponentLink3Description: Package Specification; ComponentLink3URL: http://www.ti.com/lit/ml/mpds361/mpds361.pdf
footprint TI-PW16_N (SOP, 16-Leads, Body 5x4.4mm, Pitch 0.65mm, IPC Medium Density)
footprint TI-PW16_L (SOP, 16-Leads, Body 5x4.4mm, Pitch 0.65mm, IPC High Density)
footprint TI-PW16_M (SOP, 16-Leads, Body 5x4.4mm, Pitch 0.65mm, IPC Low Density)
pins: 1 VOUTA (hiz) "Analog output voltage from DAC A", 2 VOUTB (hiz) "Analog output voltage from DAC B", 3 VREFH (in) "Positive reference input", 4 AVDD (power) "Power-supply input, 2.7V to 5.5V", 5 VREFL (in) "Negative reference input", 6 GND (power) "Ground reference point for all circuitry on the part", 7 VOUTC (hiz) "Analog output voltage from DAC C", 8 VOUTD (hiz) "Analog output voltage from DAC D", 9 ~{SYNC} (in) "Level-triggered control input (active low). This input is the frame synchronization signal for the input data. When S\Y\N\C\ goes low, it enables the input shift register, and data are sampled on subsequent falling clock (See Datasheet)", 10 SCLK (in) "Serial clock input. Data can be transferred at rates up to 50MHz. Schmitt-Trigger logic input.", 11 DIN (in) "Serial data input. Data are clocked into the 24-bit input shift register on each falling edge of the serial clock input. Schmitt-Trigger logic input.", 12 IOVDD (power) "Digital input-output power supply", 13 ~{RST} (in) "Asynchronous reset. Active low. If R\S\T\ is low, all DAC channels reset either to zero-scale (RSTSEL = 0) or to midscale (RSTSEL = 1).", 14 RSTSEL (in) "Reset select. If RSTSEL is low, input coding is binary; if high = 2's complement", 15 ~{ENABLE} (in) "The E\N\A\B\L\E\ pin (active low) connects the SPI interface to the serial port", 16 LDAC (in) "Load DACs; rising edge triggered, loads all DAC registers"

## DAC8560IADGKR
designator U?
16-Bit, Ultra-Low Glitch, Voltage Output DAC with 2.5 V, 2 ppm/degC Reference, -40 to 105 degC, 8-pin SOP (DGK8), Green (RoHS & no Sb/Br); Manufacturer: Texas Instruments; PartNumber: DAC8560IADGKR; DAC Channels: 1; INL(Max)(+/-LSB): 12; Interface: Serial SPI; Power Consumption(Typ)(mW): 2.6; Resolution(Bits): 16; Settling Time(us): 8; SFDR(dB): 79; SNR(dB): 88; SubFamily: Precision DAC (=<10MSPS); DatasheetVersion: SLAS464B; PackageVersion: 4073329/E, 05/2006; PackageReference: DGK8; PackageDescription: 8-Pin Thin Small Outline, Body 3 x 3 mm, Pitch 0.65 mm; Supplier 1: Digi-Key; Supplier Part Number 1: DAC8560IADGKR-ND; Supplier 2: Newark; Supplier Part Number 2: 26M9119; Supplier 3: Mouser; Supplier Part Number 3: 595-DAC8560IADGKR; DNL(Max)(+/-LSB): 1; Eco-Plan: Green (RoHS & no Sb/Br); Mounting Technology: Surface Mount; Code_JEDEC: MO-187; ComponentLink1Description: Manufacturer URL; ComponentLink1URL: http://www.ti.com/; ComponentLink2Description: Datasheet; ComponentLink2URL: http://www.ti.com/general/docs/lit/getliterature.tsp?genericPartNumber=DAC8560&fileType=pdf; ComponentLink3Description: Package Specification; ComponentLink3URL: http://www.ti.com/litv/pdf/mpds028d
footprint TI-DGK8_N (SOP, 8-Leads, Body 3x3mm, Pitch 0.65mm, IPC Medium Density)
footprint TI-DGK8_L (SOP, 8-Leads, Body 3x3mm, Pitch 0.65mm, IPC High Density)
footprint TI-DGK8_M (SOP, 8-Leads, Body 3x3mm, Pitch 0.65mm, IPC Low Density)
pins: 1 VDD (power) "Power-Supply Input, +2.7V to +5.5V.", 2 VREF (io) "Reference voltage input/output.", 3 VFB (in) "Feedback connection for the output amplifier. For voltage output operation, tie to VOUT externally.", 4 VOUT (hiz) "Analog output voltage from DAC. The output amplifier has rail-to-rail operation.", 5 ~{SYNC} (in) "Level-triggered control input (active LOW). This is the frame sychronization signal for the input data. When S\Y\N\C\ goes LOW, it enables the input shift register and data is transferred in on the falling edges of the (See Datasheet)", 6 SCLK (in) "Serial clock input. Schmitt-Trigger logic input", 7 DIN (in) "Serial data input. Data is clocked into the 24-bit input shift register on each falling edge of the serial clock input.Schmitt-Trigger logic Input.", 8 GND (power) "Ground reference point for all circuitry on the part."

## DAC8560IADGKRG4
designator U?
16-Bit, Ultra-Low Glitch, Voltage Output DAC with 2.5 V, 2 ppm/degC Reference, -40 to 105 degC, 8-pin SOP (DGK8), Green (RoHS & no Sb/Br); Manufacturer: Texas Instruments; PartNumber: DAC8560IADGKRG4; DAC Channels: 1; INL(Max)(+/-LSB): 12; Interface: Serial SPI; Power Consumption(Typ)(mW): 2.6; Resolution(Bits): 16; Settling Time(us): 8; SFDR(dB): 79; SNR(dB): 88; SubFamily: Precision DAC (=<10MSPS); DatasheetVersion: SLAS464B; PackageVersion: 4073329/E, 05/2006; PackageReference: DGK8; PackageDescription: 8-Pin Thin Small Outline, Body 3 x 3 mm, Pitch 0.65 mm; Supplier 1: Digi-Key; Supplier Part Number 1: DAC8560IADGKRG4-ND; Supplier 2: Mouser; Supplier Part Number 2: 595-DAC8560IADGKRG4; DNL(Max)(+/-LSB): 1; Eco-Plan: Green (RoHS & no Sb/Br); Mounting Technology: Surface Mount; Code_JEDEC: MO-187; ComponentLink1Description: Manufacturer URL; ComponentLink1URL: http://www.ti.com/; ComponentLink2Description: Datasheet; ComponentLink2URL: http://www.ti.com/general/docs/lit/getliterature.tsp?genericPartNumber=DAC8560&fileType=pdf; ComponentLink3Description: Package Specification; ComponentLink3URL: http://www.ti.com/litv/pdf/mpds028d
footprint TI-DGK8_N (SOP, 8-Leads, Body 3x3mm, Pitch 0.65mm, IPC Medium Density)
footprint TI-DGK8_L (SOP, 8-Leads, Body 3x3mm, Pitch 0.65mm, IPC High Density)
footprint TI-DGK8_M (SOP, 8-Leads, Body 3x3mm, Pitch 0.65mm, IPC Low Density)
pins: 1 VDD (power) "Power-Supply Input, +2.7V to +5.5V.", 2 VREF (io) "Reference voltage input/output.", 3 VFB (in) "Feedback connection for the output amplifier. For voltage output operation, tie to VOUT externally.", 4 VOUT (hiz) "Analog output voltage from DAC. The output amplifier has rail-to-rail operation.", 5 ~{SYNC} (in) "Level-triggered control input (active LOW). This is the frame sychronization signal for the input data. When S\Y\N\C\ goes LOW, it enables the input shift register and data is transferred in on the falling edges of the (See Datasheet)", 6 SCLK (in) "Serial clock input. Schmitt-Trigger logic input", 7 DIN (in) "Serial data input. Data is clocked into the 24-bit input shift register on each falling edge of the serial clock input.Schmitt-Trigger logic Input.", 8 GND (power) "Ground reference point for all circuitry on the part."

## DAC8560IADGKT
designator U?
16-Bit, Ultra-Low Glitch, Voltage Output DAC with 2.5 V, 2 ppm/degC Reference, -40 to 105 degC, 8-pin SOP (DGK8), Green (RoHS & no Sb/Br); Manufacturer: Texas Instruments; PartNumber: DAC8560IADGKT; DAC Channels: 1; INL(Max)(+/-LSB): 12; Interface: Serial SPI; Power Consumption(Typ)(mW): 2.6; Resolution(Bits): 16; Settling Time(us): 8; SFDR(dB): 79; SNR(dB): 88; SubFamily: Precision DAC (=<10MSPS); DatasheetVersion: SLAS464B; PackageVersion: 4073329/E, 05/2006; PackageReference: DGK8; PackageDescription: 8-Pin Thin Small Outline, Body 3 x 3 mm, Pitch 0.65 mm; Supplier 1: Digi-Key; Supplier Part Number 1: 296-21385-2-ND; Supplier 2: Digi-Key; Supplier Part Number 2: 296-21385-1-ND; Supplier 3: Digi-Key; Supplier Part Number 3: 296-21385-6-ND; Supplier 4: Newark; Supplier Part Number 4: 26M9120; Supplier 5: Mouser; Supplier Part Number 5: 595-DAC8560IADGKT; DNL(Max)(+/-LSB): 1; Eco-Plan: Green (RoHS & no Sb/Br); Mounting Technology: Surface Mount; Code_JEDEC: MO-187; ComponentLink1Description: Manufacturer URL; ComponentLink1URL: http://www.ti.com/; ComponentLink2Description: Datasheet; ComponentLink2URL: http://www.ti.com/general/docs/lit/getliterature.tsp?genericPartNumber=DAC8560&fileType=pdf; ComponentLink3Description: Package Specification; ComponentLink3URL: http://www.ti.com/litv/pdf/mpds028d
footprint TI-DGK8_N (SOP, 8-Leads, Body 3x3mm, Pitch 0.65mm, IPC Medium Density)
footprint TI-DGK8_L (SOP, 8-Leads, Body 3x3mm, Pitch 0.65mm, IPC High Density)
footprint TI-DGK8_M (SOP, 8-Leads, Body 3x3mm, Pitch 0.65mm, IPC Low Density)
pins: 1 VDD (power) "Power-Supply Input, +2.7V to +5.5V.", 2 VREF (io) "Reference voltage input/output.", 3 VFB (in) "Feedback connection for the output amplifier. For voltage output operation, tie to VOUT externally.", 4 VOUT (hiz) "Analog output voltage from DAC. The output amplifier has rail-to-rail operation.", 5 ~{SYNC} (in) "Level-triggered control input (active LOW). This is the frame sychronization signal for the input data. When S\Y\N\C\ goes LOW, it enables the input shift register and data is transferred in on the falling edges of the (See Datasheet)", 6 SCLK (in) "Serial clock input. Schmitt-Trigger logic input", 7 DIN (in) "Serial data input. Data is clocked into the 24-bit input shift register on each falling edge of the serial clock input.Schmitt-Trigger logic Input.", 8 GND (power) "Ground reference point for all circuitry on the part."

## DAC8560IADGKTG4
designator U?
16-Bit, Ultra-Low Glitch, Voltage Output DAC with 2.5 V, 2 ppm/degC Reference, -40 to 105 degC, 8-pin SOP (DGK8), Green (RoHS & no Sb/Br); Manufacturer: Texas Instruments; PartNumber: DAC8560IADGKTG4; DAC Channels: 1; INL(Max)(+/-LSB): 12; Interface: Serial SPI; Power Consumption(Typ)(mW): 2.6; Resolution(Bits): 16; Settling Time(us): 8; SFDR(dB): 79; SNR(dB): 88; SubFamily: Precision DAC (=<10MSPS); DatasheetVersion: SLAS464B; PackageVersion: 4073329/E, 05/2006; PackageReference: DGK8; PackageDescription: 8-Pin Thin Small Outline, Body 3 x 3 mm, Pitch 0.65 mm; Supplier 1: Digi-Key; Supplier Part Number 1: DAC8560IADGKTG4-ND; Supplier 2: Newark; Supplier Part Number 2: 28M5367; Supplier 3: Mouser; Supplier Part Number 3: 595-DAC8560IADGKTG4; DNL(Max)(+/-LSB): 1; Eco-Plan: Green (RoHS & no Sb/Br); Mounting Technology: Surface Mount; Code_JEDEC: MO-187; ComponentLink1Description: Manufacturer URL; ComponentLink1URL: http://www.ti.com/; ComponentLink2Description: Datasheet; ComponentLink2URL: http://www.ti.com/general/docs/lit/getliterature.tsp?genericPartNumber=DAC8560&fileType=pdf; ComponentLink3Description: Package Specification; ComponentLink3URL: http://www.ti.com/litv/pdf/mpds028d
footprint TI-DGK8_N (SOP, 8-Leads, Body 3x3mm, Pitch 0.65mm, IPC Medium Density)
footprint TI-DGK8_L (SOP, 8-Leads, Body 3x3mm, Pitch 0.65mm, IPC High Density)
footprint TI-DGK8_M (SOP, 8-Leads, Body 3x3mm, Pitch 0.65mm, IPC Low Density)
pins: 1 VDD (power) "Power-Supply Input, +2.7V to +5.5V.", 2 VREF (io) "Reference voltage input/output.", 3 VFB (in) "Feedback connection for the output amplifier. For voltage output operation, tie to VOUT externally.", 4 VOUT (hiz) "Analog output voltage from DAC. The output amplifier has rail-to-rail operation.", 5 ~{SYNC} (in) "Level-triggered control input (active LOW). This is the frame sychronization signal for the input data. When S\Y\N\C\ goes LOW, it enables the input shift register and data is transferred in on the falling edges of the (See Datasheet)", 6 SCLK (in) "Serial clock input. Schmitt-Trigger logic input", 7 DIN (in) "Serial data input. Data is clocked into the 24-bit input shift register on each falling edge of the serial clock input.Schmitt-Trigger logic Input.", 8 GND (power) "Ground reference point for all circuitry on the part."

## DAC8560IBDGKR
designator U?
16-Bit, Ultra-Low Glitch, Voltage Output DAC with 2.5 V, 2 ppm/degC Reference, -40 to 105 degC, 8-pin SOP (DGK8), Green (RoHS & no Sb/Br); Manufacturer: Texas Instruments; PartNumber: DAC8560IBDGKR; DAC Channels: 1; INL(Max)(+/-LSB): 8; Interface: Serial SPI; Power Consumption(Typ)(mW): 2.6; Resolution(Bits): 16; SFDR(dB): 79; SNR(dB): 88; SubFamily: Precision DAC (=<10MSPS); DatasheetVersion: SLAS464B; PackageVersion: 4073329/E, 05/2006; PackageReference: DGK8; PackageDescription: 8-Pin Thin Small Outline, Body 3 x 3 mm, Pitch 0.65 mm; Supplier 1: Digi-Key; Supplier Part Number 1: DAC8560IBDGKR-ND; Supplier 2: Mouser; Supplier Part Number 2: 595-DAC8560IBDGKR; DNL(Max)(+/-LSB): 1; Eco-Plan: Green (RoHS & no Sb/Br); Settling Time(us): 8; Mounting Technology: Surface Mount; Code_JEDEC: MO-187; ComponentLink1Description: Manufacturer URL; ComponentLink1URL: http://www.ti.com/; ComponentLink2Description: Datasheet; ComponentLink2URL: http://www.ti.com/general/docs/lit/getliterature.tsp?genericPartNumber=DAC8560&fileType=pdf; ComponentLink3Description: Package Specification; ComponentLink3URL: http://www.ti.com/litv/pdf/mpds028d
footprint TI-DGK8_N (SOP, 8-Leads, Body 3x3mm, Pitch 0.65mm, IPC Medium Density)
footprint TI-DGK8_L (SOP, 8-Leads, Body 3x3mm, Pitch 0.65mm, IPC High Density)
footprint TI-DGK8_M (SOP, 8-Leads, Body 3x3mm, Pitch 0.65mm, IPC Low Density)
pins: 1 VDD (power) "Power-Supply Input, +2.7V to +5.5V.", 2 VREF (io) "Reference voltage input/output.", 3 VFB (in) "Feedback connection for the output amplifier. For voltage output operation, tie to VOUT externally.", 4 VOUT (hiz) "Analog output voltage from DAC. The output amplifier has rail-to-rail operation.", 5 ~{SYNC} (in) "Level-triggered control input (active LOW). This is the frame sychronization signal for the input data. When S\Y\N\C\ goes LOW, it enables the input shift register and data is transferred in on the falling edges of the (See Datasheet)", 6 SCLK (in) "Serial clock input. Schmitt-Trigger logic input", 7 DIN (in) "Serial data input. Data is clocked into the 24-bit input shift register on each falling edge of the serial clock input.Schmitt-Trigger logic Input.", 8 GND (power) "Ground reference point for all circuitry on the part."

## DAC8560IBDGKRG4
designator U?
16-Bit, Ultra-Low Glitch, Voltage Output DAC with 2.5 V, 2 ppm/degC Reference, -40 to 105 degC, 8-pin SOP (DGK8), Green (RoHS & no Sb/Br); Manufacturer: Texas Instruments; PartNumber: DAC8560IBDGKRG4; DAC Channels: 1; INL(Max)(+/-LSB): 8; Interface: Serial SPI; Power Consumption(Typ)(mW): 2.6; Resolution(Bits): 16; SFDR(dB): 79; SNR(dB): 88; SubFamily: Precision DAC (=<10MSPS); DatasheetVersion: SLAS464B; PackageVersion: 4073329/E, 05/2006; PackageReference: DGK8; PackageDescription: 8-Pin Thin Small Outline, Body 3 x 3 mm, Pitch 0.65 mm; Supplier 1: Digi-Key; Supplier Part Number 1: DAC8560IBDGKRG4-ND; Supplier 2: Mouser; Supplier Part Number 2: 595-DAC8560IBDGKRG4; DNL(Max)(+/-LSB): 1; Eco-Plan: Green (RoHS & no Sb/Br); Settling Time(us): 8; Mounting Technology: Surface Mount; Code_JEDEC: MO-187; ComponentLink1Description: Manufacturer URL; ComponentLink1URL: http://www.ti.com/; ComponentLink2Description: Datasheet; ComponentLink2URL: http://www.ti.com/general/docs/lit/getliterature.tsp?genericPartNumber=DAC8560&fileType=pdf; ComponentLink3Description: Package Specification; ComponentLink3URL: http://www.ti.com/litv/pdf/mpds028d
footprint TI-DGK8_N (SOP, 8-Leads, Body 3x3mm, Pitch 0.65mm, IPC Medium Density)
footprint TI-DGK8_L (SOP, 8-Leads, Body 3x3mm, Pitch 0.65mm, IPC High Density)
footprint TI-DGK8_M (SOP, 8-Leads, Body 3x3mm, Pitch 0.65mm, IPC Low Density)
pins: 1 VDD (power) "Power-Supply Input, +2.7V to +5.5V.", 2 VREF (io) "Reference voltage input/output.", 3 VFB (in) "Feedback connection for the output amplifier. For voltage output operation, tie to VOUT externally.", 4 VOUT (hiz) "Analog output voltage from DAC. The output amplifier has rail-to-rail operation.", 5 ~{SYNC} (in) "Level-triggered control input (active LOW). This is the frame sychronization signal for the input data. When S\Y\N\C\ goes LOW, it enables the input shift register and data is transferred in on the falling edges of the (See Datasheet)", 6 SCLK (in) "Serial clock input. Schmitt-Trigger logic input", 7 DIN (in) "Serial data input. Data is clocked into the 24-bit input shift register on each falling edge of the serial clock input.Schmitt-Trigger logic Input.", 8 GND (power) "Ground reference point for all circuitry on the part."